# Altium schematic symbol library Misc.SchLib: 5 symbols
Pins are listed as number, name and electrical type; pins without a type are passive.

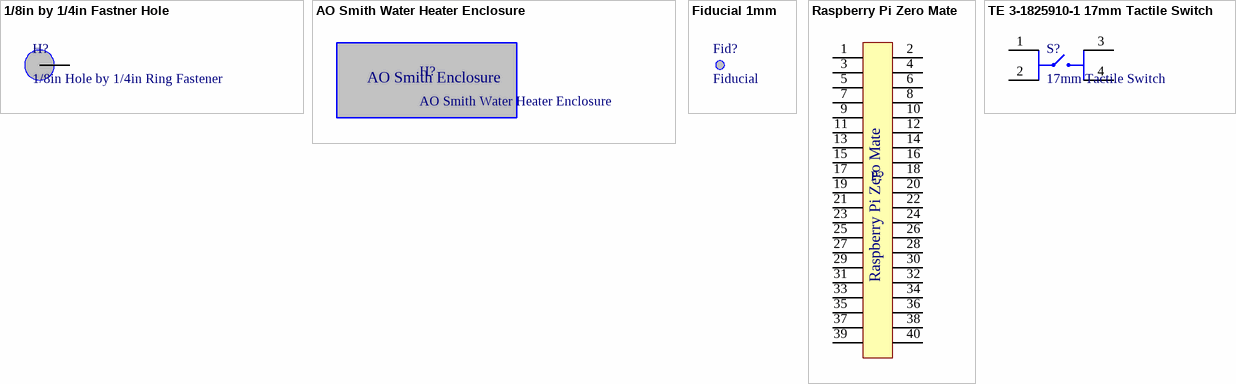
[diagram p0: symbols 1/8in by 1/4in Fastner Hole to TE 3-1825910-1 17mm Tactile Switch]

## 1/8in by 1/4in Fastner Hole
designator H?, comment 1/8in Hole by 1/4in Ring Fastener
footprint 1/8in Fastener Hole
pins: 1 (power)

## AO Smith Water Heater Enclosure
designator H?
footprint AO Smith Water Heater Enclosure (AO Smith's Smart Water Heater Control Panel Enclosure)
footprint AO Smith Water Heater Enclosure wo/ LCD and Buttons (AO Smith's Smart Water Heater Control Panel Enclosure Without LCD and Button Markings)
footprint AO Smith Water Heater Enclosure wo/ Buttons (AO Smith's Smart Water Heater Control Panel Enclosure Without Button Markings)
text: AO Smith Enclosure

## Fiducial 1mm
designator Fid?, comment Fiducial
1mm Fiducial Mark
footprint Fiducial 1mm

## Raspberry Pi Zero Mate
designator P?, comment Raspbery Pi Zero Mate  (value not drawn)
The header and mechanical drawings for connnecting a Raspbery Pi Zero
footprint Raspberry Pi Zero (Raspberry Pi Zero Header and Layout)
pins: 1, 2, 3, 4, 5, 6, 7, 8, 9, 10, 11, 12, 13, 14, 15, 16, 17, 18, 19, 20, 21, 22, 23, 24, 25, 26, 27, 28, 29, 30, 31, 32, 33, 34, 35, 36, 37, 38, 39, 40

## TE 3-1825910-1 17mm Tactile Switch
designator S?, comment 17mm Tactile Switch
TE 3-1825910-1 17mm Tactile Switch; Supplier 1: Digi-Key; Supplier Part Number 1: 450-1643-ND
footprint TactileSwitchTE17mm (TE 3-1825910-1 17mm Tactile Switch)
pins: 1, 2, 3, 4